# Altium footprint library 2-1761679-5.PcbLib: 1 footprints
Each footprint in its own frame and in the unit in brackets; x right, y up, seen from the top. Pads: shape width x height; smd on the part's side, far side on the other; paste and mask are expansions set on the pad; w line width, h text height; cw(c..) or ccw(c..) is an arc to the next point about the centre after c.
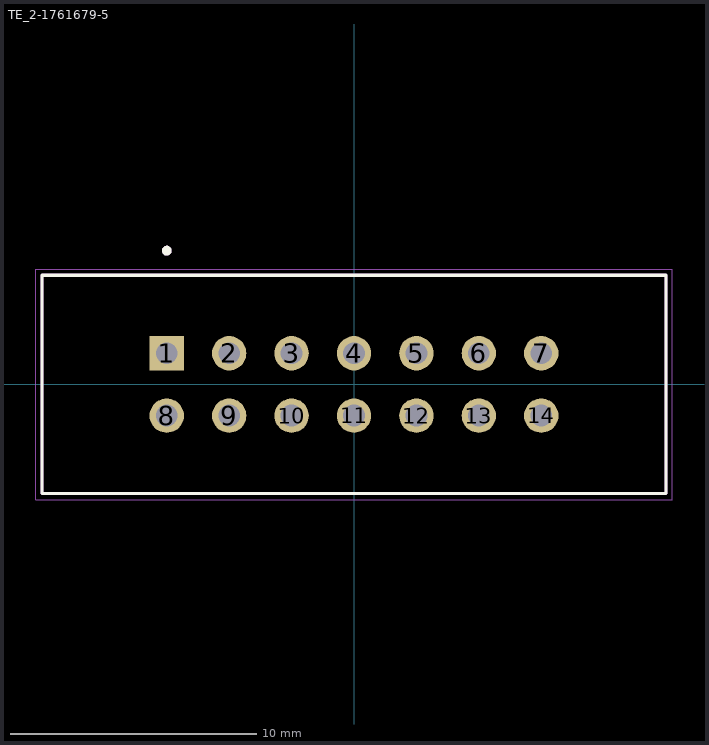
[diagram p0: the footprint, top view; thin cyan lines are the x and y axes]

## TE_2-1761679-5 [mm]
pads (14):
  rect 1.398x1.398 hole 0.89: 1(-7.62,1.27)
  round 1.398 hole 0.89: 2(-5.08,1.27) 3(-2.54,1.27) 4(0,1.27) 5(2.54,1.27) 6(5.08,1.27) 7(7.62,1.27) 8(-7.62,-1.27) 9(-5.08,-1.27) 10(-2.54,-1.27) 11(0,-1.27) 12(2.54,-1.27) 13(5.08,-1.27) 14(7.62,-1.27)
Top Overlay:
  circle w0.2: c-7.62,5.445 r0.1
  lines w0.127: -12.7,-4.445 -12.7,4.445 12.7,4.445 12.7,-4.445 -12.7,-4.445
Mechanical 13:
  circle w0.2: c-7.62,5.445 r0.1
  lines w0.127: -12.7,-4.445 -12.7,4.445 12.7,4.445 12.7,-4.445 -12.7,-4.445
Mechanical 15:
  lines w0.05: -12.95,-4.695 12.95,-4.695 12.95,4.695 -12.95,4.695 -12.95,-4.695